# EAGLE library part TEENSY_3.5-3.6_TESTER (library teensy)
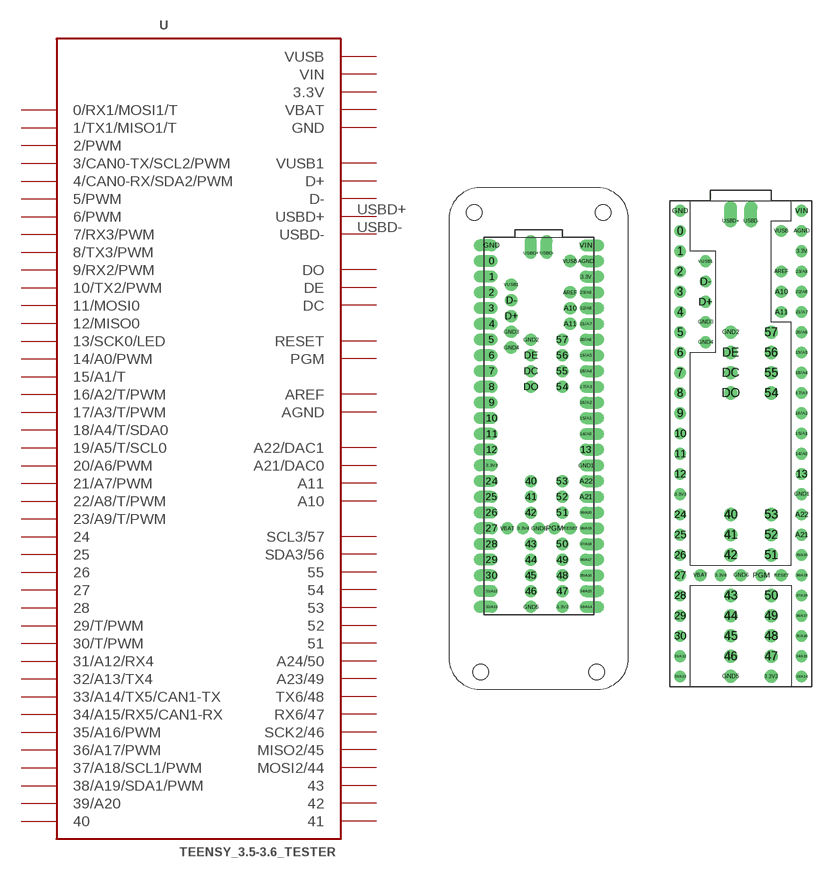
[diagram p24: symbol with the pads of TEENSY_3.5-3.6_TESTER; footprints TEENSY_3.5-3.6_TESTER, TEENSY_3.5-3.6_TESTER_SMALL]

Designator prefix -

## TEENSY_3.5-3.6_TESTERLARGE  [TEENSY_3.5-3.6_TESTER]
0  0/RX1/MOSI1/T
1  1/TX1/MISO1/T
2  2/PWM
3  3/CAN0-TX/SCL2/PWM
3.3V  3.3V  pwr
3.3V2  3.3V  pwr
3.3V3  3.3V  pwr
3.3V4  3.3V  pwr
4  4/CAN0-RX/SDA2/PWM
5  5/PWM
6  6/PWM
7  7/RX3/PWM
8  8/TX3/PWM
9  9/RX2/PWM
10  10/TX2/PWM
11  11/MOSI0
12  12/MISO0
13  13/SCK0/LED
14/A0  14/A0/PWM
15/A1  15/A1/T
16/A2  16/A2/T/PWM
17/A3  17/A3/T/PWM
18/A4  18/A4/T/SDA0
19/A5  19/A5/T/SCL0
20/A6  20/A6/PWM
21/A7  21/A7/PWM
22/A8  22/A8/T/PWM
23/A9  23/A9/T/PWM
24  24
25  25
26  26
27  27
28  28
29  29/T/PWM
30  30/T/PWM
31/A12  31/A12/RX4
32/A13  32/A13/TX4
33/A14  33/A14/TX5/CAN1-TX
34/A15  34/A15/RX5/CAN1-RX
35/A16  35/A16/PWM
36/A17  36/A17/PWM
37/A18  37/A18/SCL1/PWM
38/A19  38/A19/SDA1/PWM
39/A20  39/A20
40  40
41  41
42  42
43  43
44  MOSI2/44
45  MISO2/45
46  SCK2/46
47  RX6/47
48  TX6/48
49  A23/49
50  A24/50
51  51
52  52
53  53
54  54
55  55
56  SDA3/56
57  SCL3/57
A10  A10
A11  A11
A21  A21/DAC0
A22  A22/DAC1
AGND  AGND  pwr
AREF  AREF  pwr
D+  D+
D-  D-
DC  DC
DE  DE
DO  DO
GND  GND  pwr
GND1  GND  pwr
GND2  GND  pwr
GND3  GND  pwr
GND4  GND  pwr
GND5  GND  pwr
GND6  GND  pwr
PGM  PGM
RESET  RESET
USBD+  USBD+
USBD-  USBD-
VBAT  VBAT  pwr
VIN  VIN  pwr
VUSB  VUSB  pwr
VUSB1  VUSB1  pwr

## TEENSY_3.5-3.6_TESTERSMALL  [TEENSY_3.5-3.6_TESTER_SMALL]
Pads as for TEENSY_3.5-3.6_TESTER

## Footprint TEENSY_3.5-3.6_TESTER (pad centres in mm)
drill 1.3 pad 1.778 offset: 0 -7.62,26.67; 1 -7.62,24.13; 2 -7.62,21.59; 3 -7.62,19.05; 3.3V 7.62,24.13; 3.3V3 -7.62,-6.35; 4 -7.62,16.51; 5 -7.62,13.97; 6 -7.62,11.43; 7 -7.62,8.89; 8 -7.62,6.35; 9 -7.62,3.81; 10 -7.62,1.27; 11 -7.62,-1.27; 12 -7.62,-3.81; 13 7.62,-3.81; 14/A0 7.62,-1.27; 15/A1 7.62,1.27; 16/A2 7.62,3.81; 17/A3 7.62,6.35; 18/A4 7.62,8.89; 19/A5 7.62,11.43; 20/A6 7.62,13.97; 21/A7 7.62,16.51; 22/A8 7.62,19.05; 23/A9 7.62,21.59; 24 -7.62,-8.89; 25 -7.62,-11.43; 26 -7.62,-13.97; 27 -7.62,-16.51; 28 -7.62,-19.05; 29 -7.62,-21.59; 30 -7.62,-24.13; 31/A12 -7.62,-26.67; 32/A13 -7.62,-29.21; 33/A14 7.62,-29.21; 34/A15 7.62,-26.67; 35/A16 7.62,-24.13; 36/A17 7.62,-21.59; 37/A18 7.62,-19.05; 38/A19 7.62,-16.51; 39/A20 7.62,-13.97; A21 7.62,-11.43; A22 7.62,-8.89; AGND 7.62,26.67; GND -7.62,29.21; GND1 7.62,-6.35; USBD+ -1.27,27.94; USBD- 1.27,27.94; VIN 7.62,29.21
drill 1.3: 3.3V2 3.81,-29.21; 3.3V4 -2.54,-16.51; 40 -1.27,-8.89; 41 -1.27,-11.43; 42 -1.27,-13.97; 43 -1.27,-19.05; 44 -1.27,-21.59; 45 -1.27,-24.13; 46 -1.27,-26.67; 47 3.81,-26.67; 48 3.81,-24.13; 49 3.81,-21.59; 50 3.81,-19.05; 51 3.81,-13.97; 52 3.81,-11.43; 53 3.81,-8.89; 54 3.81,6.35; 55 3.81,8.89; 56 3.81,11.43; 57 3.81,13.97; A10 5.08,19.05; A11 5.08,16.51; AREF 5.08,21.59; D+ -4.445,17.78; D- -4.445,20.32; DC -1.27,8.89; DE -1.27,11.43; DO -1.27,6.35; GND2 -1.27,13.97; GND3 -4.445,15.24; GND4 -4.445,12.7; GND5 -1.27,-29.21; GND6 0,-16.51; PGM 2.54,-16.51; RESET 5.08,-16.51; VBAT -5.08,-16.51; VUSB 5.08,26.67; VUSB1 -4.445,22.86
hole 2.5 at -10.4,34.5
hole 2.5 at 10.4,34.5
hole 2.5 at -9.4,-39.7
hole 2.5 at 9.4,-39.7

## Footprint TEENSY_3.5-3.6_TESTER_SMALL (pad centres in mm)
drill 0.965: 0 -7.62,26.67; 1 -7.62,24.13; 2 -7.62,21.59; 3 -7.62,19.05; 3.3V 7.62,24.13; 3.3V3 -7.62,-6.35; 3.3V4 -2.54,-16.51; 4 -7.62,16.51; 5 -7.62,13.97; 6 -7.62,11.43; 7 -7.62,8.89; 8 -7.62,6.35; 9 -7.62,3.81; 10 -7.62,1.27; 11 -7.62,-1.27; 12 -7.62,-3.81; 13 7.62,-3.81; 14/A0 7.62,-1.27; 15/A1 7.62,1.27; 16/A2 7.62,3.81; 17/A3 7.62,6.35; 18/A4 7.62,8.89; 19/A5 7.62,11.43; 20/A6 7.62,13.97; 21/A7 7.62,16.51; 22/A8 7.62,19.05; 23/A9 7.62,21.59; 24 -7.62,-8.89; 25 -7.62,-11.43; 26 -7.62,-13.97; 27 -7.62,-16.51; 28 -7.62,-19.05; 29 -7.62,-21.59; 30 -7.62,-24.13; 31/A12 -7.62,-26.67; 32/A13 -7.62,-29.21; 33/A14 7.62,-29.21; 34/A15 7.62,-26.67; 35/A16 7.62,-24.13; 36/A17 7.62,-21.59; 37/A18 7.62,-19.05; 38/A19 7.62,-16.51; 39/A20 7.62,-13.97; A10 5.08,19.05; A11 5.08,16.51; A21 7.62,-11.43; A22 7.62,-8.89; AGND 7.62,26.67; AREF 5.08,21.59; D+ -4.445,17.78; D- -4.445,20.32; GND -7.62,29.21; GND1 7.62,-6.35; GND3 -4.445,15.24; GND4 -4.445,12.7; GND6 0,-16.51; PGM 2.54,-16.51; RESET 5.08,-16.51; VBAT -5.08,-16.51; VIN 7.62,29.21; VUSB 5.08,26.67; VUSB1 -4.445,22.86
drill 1.1: 3.3V2 3.81,-29.21; 40 -1.27,-8.89; 41 -1.27,-11.43; 42 -1.27,-13.97; 43 -1.27,-19.05; 44 -1.27,-21.59; 45 -1.27,-24.13; 46 -1.27,-26.67; 47 3.81,-26.67; 48 3.81,-24.13; 49 3.81,-21.59; 50 3.81,-19.05; 51 3.81,-13.97; 52 3.81,-11.43; 53 3.81,-8.89; 54 3.81,6.35; 55 3.81,8.89; 56 3.81,11.43; 57 3.81,13.97; DC -1.27,8.89; DE -1.27,11.43; DO -1.27,6.35; GND2 -1.27,13.97; GND5 -1.27,-29.21
drill 1.1 offset: USBD+ -1.27,27.94; USBD- 1.27,27.94